# EAGLE library part LSM9DS0 (library SparkFun-DigitalIC)
LSM9DS0 3D Accelerometer, 3D Gyroscope, 3D Magnetomter Features: 3 acceleration channels, 3 angular rate channels, 3 magnetic field channels ±2/±4/±6/±8/±16 g linear acceleration full scale ±2/±4/±8/±12 gauss magnetic full scale ±245/±500/±2000 dps angular rate full scale 16-bit data output SPI / I2C serial interfaces Analog supply voltage 2.4 V to 3.6 V Power-down mode / low-power mode Programmable interrupt generators Embedded self-test Embedded temperature sensor Embedded FIFO Position and motion detection functions Click/double-click recognition
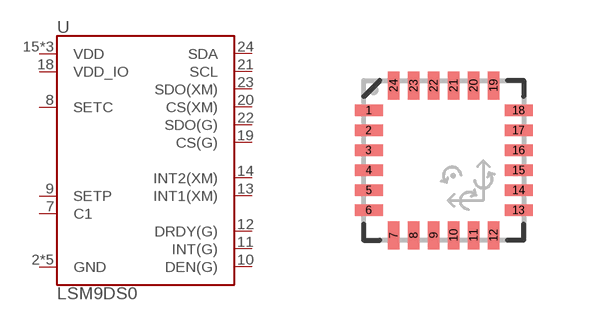
[diagram p97: symbol with the pads of LGA-24; footprint LGA-24]

Designator prefix U

## LSM9DS0  [LGA-24]
2  GND
3  GND
4  GND
5  GND
6  GND
7  C1
8  SETC
9  SETP
10  DEN(G)
11  INT(G)
12  DRDY(G)
13  INT1(XM)
14  INT2(XM)
15  VDD
16  VDD
17  VDD
18  VDD_IO
19  CS(G)
20  CS(XM)
21  SCL
22  SDO(G)
23  SDO(XM)
24  SDA

## Footprint LGA-24 (pad centres in mm)
LGA 4x4x1 mm 24-lead 0.5mm pitch Pads are 0.35x0.2 mm square This package is used for: ST Micro LSM9DS0 3D accel/gyro/mag
smd 0.7 x 0.29: 1 -1.875,1.25; 2 -1.875,0.75; 3 -1.875,0.25; 4 -1.875,-0.25; 5 -1.875,-0.75; 6 -1.875,-1.25; 13 1.875,-1.25; 14 1.875,-0.75; 15 1.875,-0.25; 16 1.875,0.25; 17 1.875,0.75; 18 1.875,1.25
smd 0.29 x 0.7: 7 -1.25,-1.875; 8 -0.75,-1.875; 9 -0.25,-1.875; 10 0.25,-1.875; 11 0.75,-1.875; 12 1.25,-1.875; 19 1.25,1.875; 20 0.75,1.875; 21 0.25,1.875; 22 -0.25,1.875; 23 -0.75,1.875; 24 -1.25,1.875